# Altium footprint library SNAKE_FYP.PcbLib: 25 footprints (part 1 of 2)
Each footprint in its own frame and in the unit in brackets; x right, y up, seen from the top. Pads: shape width x height; smd on the part's side, far side on the other; paste and mask are expansions set on the pad; w line width, h text height; cw(c..) or ccw(c..) is an arc to the next point about the centre after c.
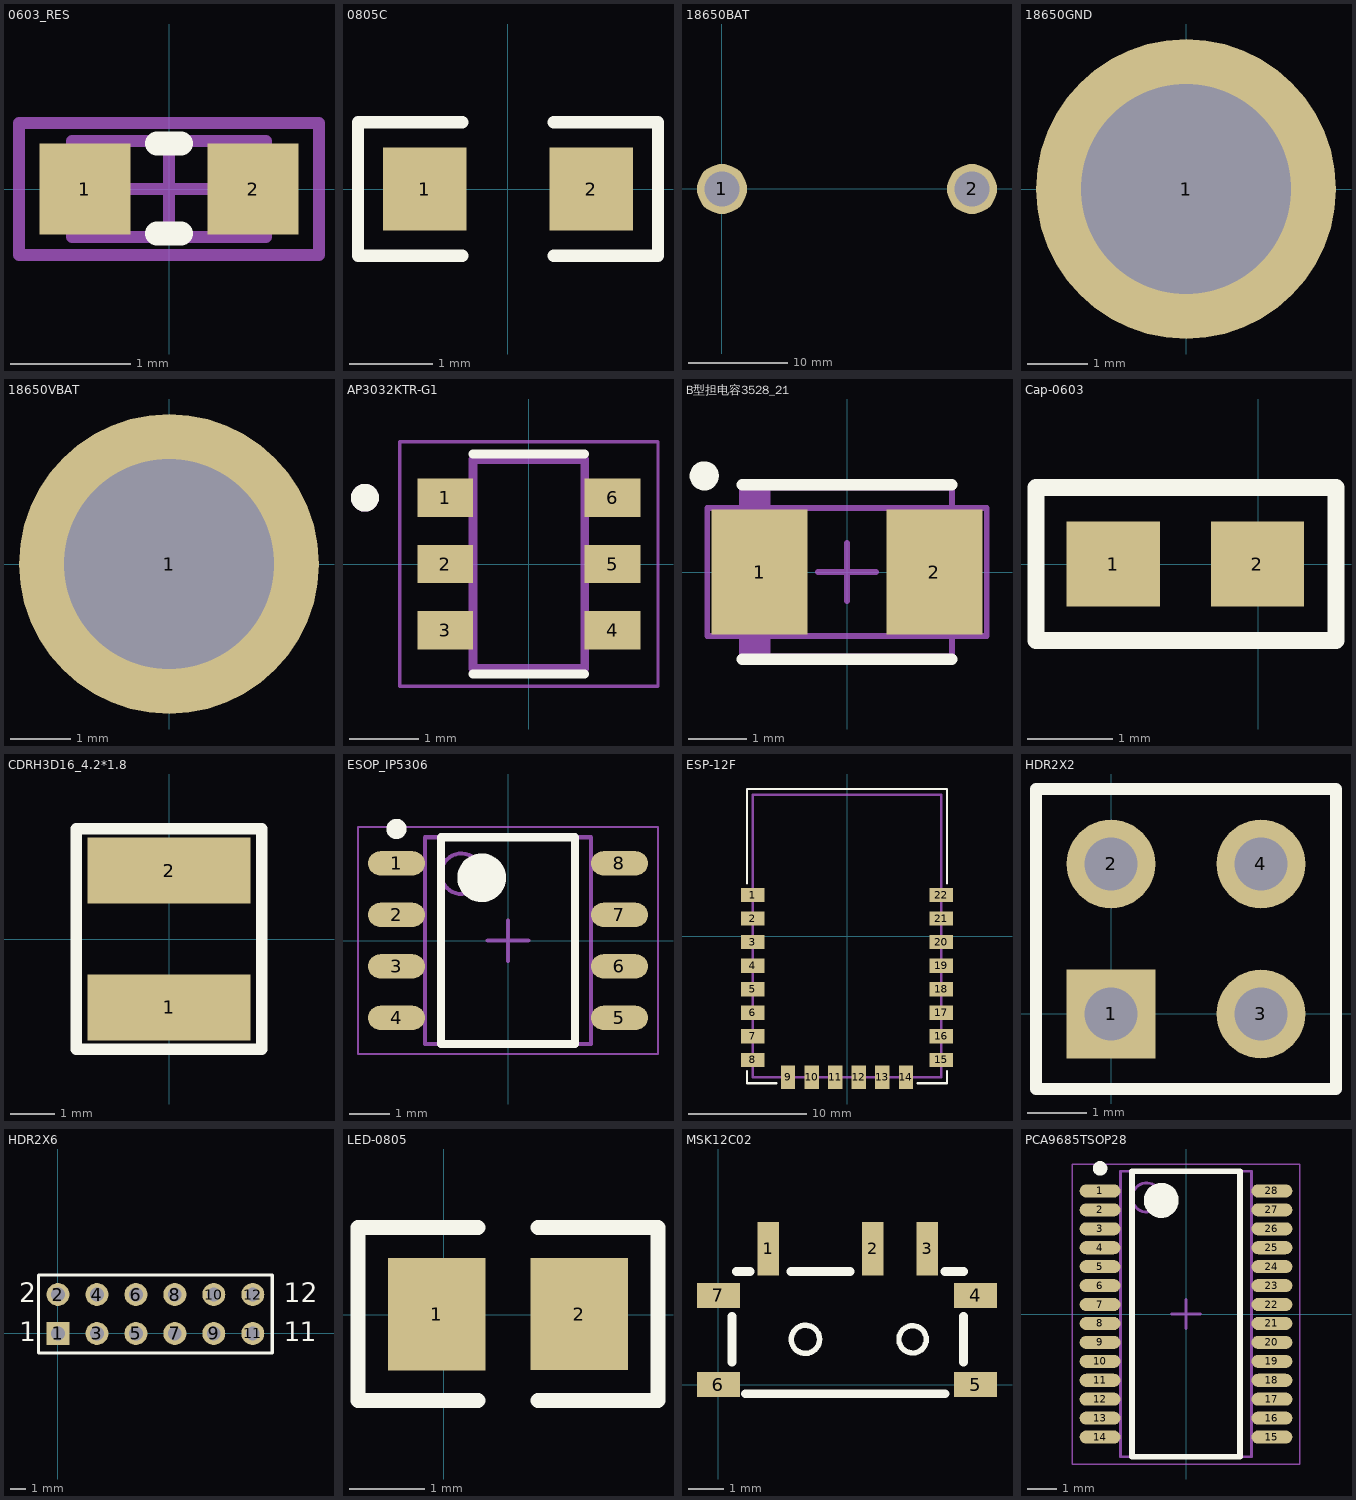
[diagram p0: the footprints below, top view; thin cyan lines are the x and y axes]

## 0603_RES [mil]
height 19.68
pads (2):
  rect 30x30 smd: 1(-27.56,0) 2(27.56,0)
Top Overlay:
  lines w7.87: -3.94,-14.57 3.94,-14.57 ; -3.94,14.96 3.94,14.96
Mechanical 13:
  lines w3.94: -31.89,-15.75 31.89,-15.75 31.89,15.75 -31.89,15.75 -31.89,-15.75
Mechanical 15:
  lines w3.94: -15.75,0 15.75,0 ; 0,-15.75 0,15.75 ; -49.21,-21.65 -49.21,21.65 49.21,21.65 49.21,-21.65 -49.21,-21.65
3D body "RES0603.STEP": height 17.72, standoff 0, extent -31.49,-16.13 31.5,16.15

## 0805C [mm]
pads (2):
  rect 1x1 smd: 1(-1,0) 2(1,0)
Top Overlay:
  lines w0.15: -0.55,-0.8 -1.8,-0.8 -1.8,0.8 -0.55,0.8 ; 0.55,-0.8 1.8,-0.8 1.8,0.8 0.55,0.8

## 18650BAT [mm]
pads (2):
  round 5 hole 3.5: 1(0,0) 2(25,0)

## 18650GND [mm]
pads (1):
  round 5 hole 3.5: 1(0,0)

## 18650VBAT [mm]
pads (1):
  round 5 hole 3.5: 1(0,0)

## AP3032KTR-G1 [mm]
pads (6):
  rect 0.8x0.55 smd: 1(-1.2,0.95) 2(-1.2,0) 3(-1.2,-0.95) 4(1.2,-0.95) 5(1.2,0) 6(1.2,0.95)
Top Overlay:
  circle w0.2: c-2.35,0.95 r0.1
  lines w0.127: -0.8,-1.575 0.8,-1.575 ; -0.8,1.575 0.8,1.575
Mechanical 13:
  circle w0.2: c-2.35,0.95 r0.1
  lines w0.127: -0.8,-1.5 -0.8,1.5 0.8,1.5 0.8,-1.5 -0.8,-1.5
Mechanical 15:
  lines w0.05: -1.85,-1.75 1.85,-1.75 1.85,1.75 -1.85,1.75 -1.85,-1.75
3D body "step_temp.STEP": height 1.4, standoff 0, extent -1.425,-1.5 1.425,1.5

## B型担电容3528_21 [mm] "Molded Capacitor, 2-Leads, Body 3.5x2.8mm, IPC Medium Density"
height 1.9
pads (2):
  rect 1.65x2.15 smd: 1(-1.5,0) 2(1.5,0)
Top Overlay:
  circle w0.25: c-2.45,1.65 r0.125
  lines w0.2: -1.8,-1.5 1.8,-1.5 ; -1.8,1.5 1.8,1.5
Mechanical 13:
  rectangle: -1.8,-1.45 -1.316,1.45
  lines w0.1: -1.8,-1.45 -1.8,1.45 1.8,1.45 1.8,-1.45 -1.8,-1.45
Mechanical 15:
  lines w0.1: -0.5,0 0.5,0 ; 0,-0.5 0,0.5 ; -2.4,-1.1 -2.4,1.1 2.4,1.1 2.4,-1.1 -2.4,-1.1
3D body: height 1.9, standoff 0, extent -1.8,-1.45 1.8,1.45

## Cap-0603 [mm]
pads (2):
  rect 1.1x1 smd: 1(-1.713,0.005) 2(-0.013,0.005)
Top Overlay:
  lines w0.2: 0.914,-0.895 -2.624,-0.895 -2.624,0.905 0.914,0.905 0.914,-0.886
3D body "CC0603.STEP": height 0.3, standoff 0, extent -1.663,-0.395 -0.062,0.405

## CDRH3D16_4.2*1.8 [mm]
height 0.9
pads (2):
  rect 3.7x1.5 smd: 1(0,-1.55) 2(0,1.55)
Top Overlay:
  lines w0.254: -2.1,-2.5 -2.1,0 -2.1,2.5 2.1,2.5 2.1,-2.5 -2.1,-2.5

## ESOP_IP5306 [mm] "SOP, 8-Leads, Body 4.90x3.90mm, Pitch 1.27mm, IPC Medium Density"
height 1.65
pads (8):
  oval 1.4x0.6 smd: 1(-2.75,1.905) 2(-2.75,0.635) 3(-2.75,-0.635) 4(-2.75,-1.905) 5(2.75,-1.905) 6(2.75,-0.635) 7(2.75,0.635) 8(2.75,1.905)
Top Overlay:
  circle w0.25: c-2.75,2.755 r0.125
  circle w0.6: c-0.65,1.55 r0.3
  lines w0.2: -1.65,-2.55 -1.65,2.55 1.65,2.55 1.65,-2.55 -1.65,-2.55
Mechanical 13:
  circle w0.1: c-1.15,1.65 r0.5
  lines w0.1: -2.05,-2.55 -2.05,2.55 2.05,2.55 2.05,-2.55 -2.05,-2.55
Mechanical 15:
  lines w0.05: -3.7,-2.8 -3.7,2.8 3.7,2.8 3.7,-2.8 -3.7,-2.8
  lines w0.1: -0.5,0 0.5,0 ; 0,-0.5 0,0.5
3D body: height 1.65, standoff 0.05, extent -2.05,-2.55 2.05,2.55

## ESP-12F [mm]
pads (22):
  rect 2x1.2 smd: 1(-8,3.48) 2(-8,1.48) 3(-8,-0.52) 4(-8,-2.52) 5(-8,-4.52) 6(-8,-6.52) 7(-8,-8.52) 8(-8,-10.52) 15(8,-10.52) 16(8,-8.52) 17(8,-6.52) 18(8,-4.52) 19(8,-2.52) 20(8,-0.52) 21(8,1.48) 22(8,3.48)
  rect 1.2x2 smd: 9(-5,-12) 10(-3,-12) 11(-1,-12) 12(1,-12) 13(3,-12) 14(5,-12)
Top Overlay:
  lines w0.2: -8.5,-11.5 -8.5,-12.5 -6,-12.5 ; -8.5,4.5 -8.5,12.5 8.5,12.5 8.5,4.5 ; 6,-12.5 8.5,-12.5 8.5,-11.5
Mechanical 13:
  lines w0.2: -8,-12 8,-12 8,12 -8,12 -8,-12
3D body "ESP-12F--3DModel-STEP-269445.STEP": height 3.1, standoff 0, extent -8.85,-12.9 8.85,12

## HDR2X2 [mm]
pads (4):
  rect 1.5x1.5 hole 0.9: 1(0,0)
  round 1.5 hole 0.9: 2(0,2.54) 3(2.54,0) 4(2.54,2.54)
Top Overlay:
  lines w0.2: -1.27,-1.27 -1.27,3.81 3.81,3.81 3.81,-1.27 -1.27,-1.27

## HDR2X6 [mm] "Connector; Header; 6x2 Position"
height 2.5
pads (12):
  rect 1.5x1.5 hole 0.9: 1(0,0)
  round 1.5 hole 0.9: 2(0,2.54) 3(2.54,0) 4(2.54,2.54) 5(5.08,0) 6(5.08,2.54) 7(7.62,0) 8(7.62,2.54) 9(10.16,0) 10(10.16,2.54) 11(12.7,0) 12(12.7,2.54)
Top Overlay:
  lines w0.2: -1.27,-1.27 -1.27,3.81 13.97,3.81 13.97,-1.27 -1.27,-1.27
  text "2" at -2.54,2.032 h1.27
  text "1" at -2.54,-0.508 h1.27
  text "1" at 14.732,-0.508 h1.27
  text "1" at 15.748,-0.508 h1.27
  text "12" at 14.732,2.032 h1.27

## LED-0805 [mm]
pads (2):
  rect 1.3x1.5 smd: 1(-0.093,0.008) 2(1.807,0.008)
Top Overlay:
  lines w0.2: 0.457,-1.142 -1.143,-1.142 -1.143,1.158 0.457,1.158 ; 1.257,-1.142 2.857,-1.142 2.857,1.158 1.257,1.158
3D body "R0805.STEP": height 0.55, standoff 0, extent -0.143,-0.622 1.857,0.638

## MSK12C02 [mm]
pads (7):
  rect 0.6x1.5 smd: 1(1.397,3.81) 2(4.318,3.81) 3(5.842,3.81)
  rect 1.2x0.7 smd: 4(7.2,2.5) 5(7.2,0) 6(0,0) 7(0,2.5)
Top Overlay:
  circle w0.152: c2.437,1.27 r0.395
  circle w0.152: c5.437,1.27 r0.382
  lines w0.25: 0.381,0.635 0.381,1.905 ; 0.508,3.175 0.889,3.175 ; 0.762,-0.254 6.35,-0.254 ; 2.032,3.175 3.683,3.175 ; 6.35,3.175 6.858,3.175 ; 6.858,0.635 6.858,1.905
3D body: height 1.4, standoff 0.15, extent 0.381,-0.254 6.858,3.175

## PCA9685TSOP28 [mm] "TSOP, 28-Leads, Body 9.70x4.40mm, Pitch 0.65mm, IPC Medium Density"
height 1.1
pads (28):
  oval 1.4x0.45 smd: 1(-2.95,4.225) 2(-2.95,3.575) 3(-2.95,2.925) 4(-2.95,2.275) 5(-2.95,1.625) 6(-2.95,0.975) 7(-2.95,0.325) 8(-2.95,-0.325) 9(-2.95,-0.975) 10(-2.95,-1.625) 11(-2.95,-2.275) 12(-2.95,-2.925) 13(-2.95,-3.575) 14(-2.95,-4.225) 15(2.95,-4.225) 16(2.95,-3.575) 17(2.95,-2.925) 18(2.95,-2.275) 19(2.95,-1.625) 20(2.95,-0.975) 21(2.95,-0.325) 22(2.95,0.325) 23(2.95,0.975) 24(2.95,1.625) 25(2.95,2.275) 26(2.95,2.925) 27(2.95,3.575) 28(2.95,4.225)
Top Overlay:
  circle w0.25: c-2.95,5 r0.125
  circle w0.6: c-0.85,3.9 r0.3
  lines w0.2: -1.85,-4.9 -1.85,4.9 1.85,4.9 1.85,-4.9 -1.85,-4.9
Mechanical 13:
  circle w0.1: c-1.35,4 r0.5
  lines w0.1: -2.25,-4.9 -2.25,4.9 2.25,4.9 2.25,-4.9 -2.25,-4.9
Mechanical 15:
  lines w0.05: -3.9,-5.15 -3.9,5.15 3.9,5.15 3.9,-5.15 -3.9,-5.15
  lines w0.1: -0.5,0 0.5,0 ; 0,-0.5 0,0.5
3D body: height 1.1, standoff 0.15, extent -2.25,-4.9 2.25,4.9